# Altium footprint library J 集成块.PCBLIB: 89 footprints (part 4 of 6)
Each footprint in its own frame and in the unit in brackets; x right, y up, seen from the top. Pads: shape width x height; smd on the part's side, far side on the other; paste and mask are expansions set on the pad; w line width, h text height; cw(c..) or ccw(c..) is an arc to the next point about the centre after c.
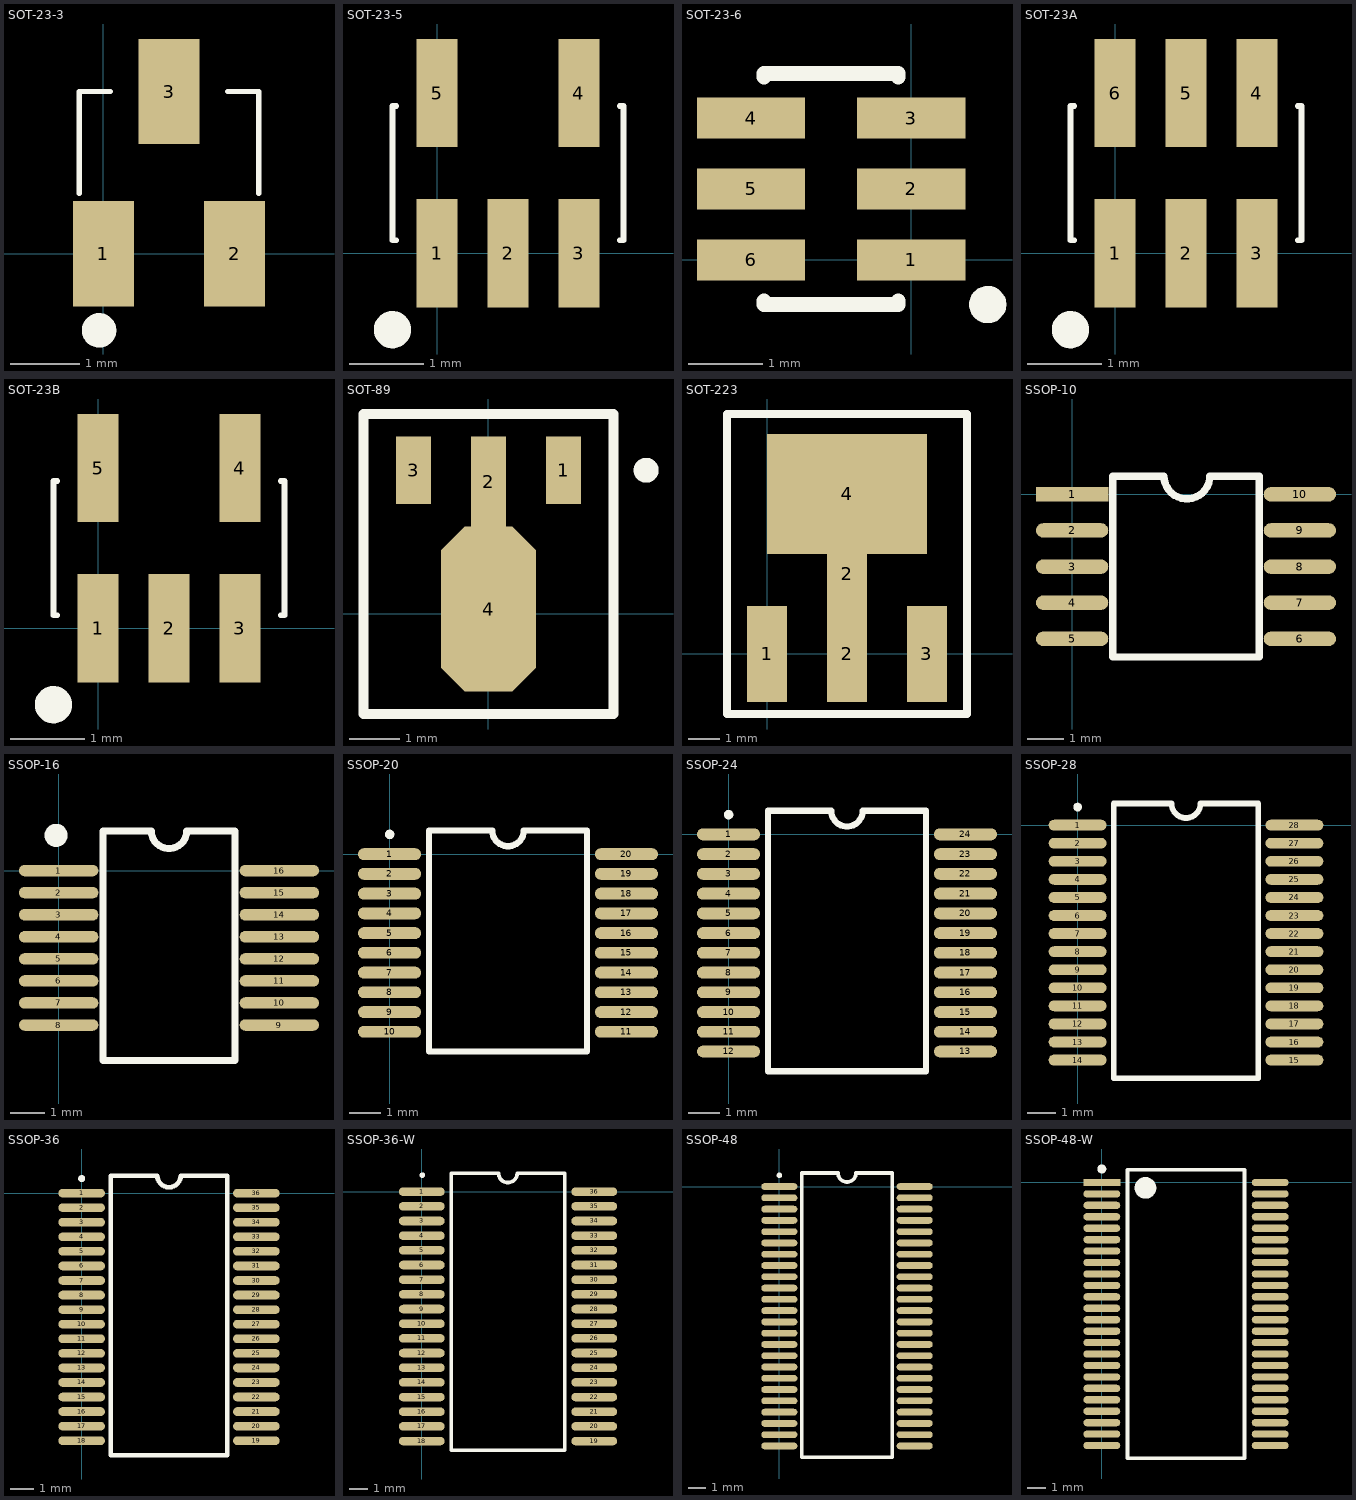
[diagram p3: the footprints below, top view; thin cyan lines are the x and y axes]

## SOT-23-3 [mil] "SOT-23; 3 Leads; Body 3.1 x 2.5 mm, inc. leads (LxW max), Alternate Lead Configuration"
height 43.31
pads (3):
  rect 35x60 smd: 1(0,0) 2(74.8,0) 3(37.4,92.52)
Top Overlay:
  circle w9.84: c-2.52,-43.74 r4.92
  lines w3: -13.78,34.45 -13.78,92.52 3.94,92.52 ; 70.87,92.52 88.58,92.52 88.58,34.45

## SOT-23-5 [mm] "SOT-23/SC-74A; 5 Leads; Body 3.1 x 3 mm, inc. leads (LxW max)"
height 1.45
pads (5):
  rect 0.55x1.45 smd: 1(0,0) 2(0.95,0) 3(1.9,0) 4(1.9,2.15) 5(0,2.15)
Top Overlay:
  circle w0.25: c-0.6,-1.025 r0.125
  lines w0.076: -0.55,0.175 -0.6,0.175 -0.6,1.975 -0.55,1.975 ; 2.45,0.175 2.5,0.175 2.5,1.975 2.45,1.975

## SOT-23-6 [mm]
pads (6):
  rect 1.45x0.55 smd: 1(0,0) 2(0,0.95) 3(0,1.9) 4(-2.15,1.9) 5(-2.15,0.95) 6(-2.15,0)
Top Overlay:
  circle w0.25: c1.025,-0.6 r0.125
  lines w0.2: -1.975,-0.55 -1.975,-0.6 -0.175,-0.6 -0.175,-0.55 ; -1.975,2.45 -1.975,2.5 -0.175,2.5 -0.175,2.45

## SOT-23A [mm] "SOT-23/SC-74A; 5 Leads; Body 3.1 x 3 mm, inc. leads (LxW max)"
height 1.45
pads (6):
  rect 0.55x1.45 smd: 1(0,0) 2(0.95,0) 3(1.9,0) 4(1.9,2.15) 5(0.95,2.15) 6(0,2.15)
Top Overlay:
  circle w0.25: c-0.6,-1.025 r0.125
  lines w0.076: -0.55,0.175 -0.6,0.175 -0.6,1.975 -0.55,1.975 ; 2.45,0.175 2.5,0.175 2.5,1.975 2.45,1.975

## SOT-23B [mm] "SOT-23/SC-74A; 5 Leads; Body 3.1 x 3 mm, inc. leads (LxW max)"
height 1.45
pads (5):
  rect 0.55x1.45 smd: 1(0,0) 2(0.95,0) 3(1.9,0) 4(1.9,2.15) 5(0,2.15)
Top Overlay:
  circle w0.25: c-0.6,-1.025 r0.125
  lines w0.076: -0.55,0.175 -0.6,0.175 -0.6,1.975 -0.55,1.975 ; 2.45,0.175 2.5,0.175 2.5,1.975 2.45,1.975

## SOT-89 [mm]
pads (4):
  rect 0.7x1.35 smd: 1(1.508,2.872) 3(-1.492,2.872)
  rect 0.7x1.8 smd: 2(0.008,2.647)
  oct 1.9x3.3 smd: 4(0.008,0.097)
Top Overlay:
  circle w0.25: c3.158,2.872 r0.125
  lines w0.2: -2.492,-2.002 2.508,-2.002 2.508,3.997 -2.492,3.997 -2.492,-2.002

## SOT-223 [mil]
pads (5):
  rect 50x120 smd: 1(0,0) 2(100,0) 3(200,0)
  rect 50x100 smd: 2(100,100)
  rect 200x150 smd: 4(100,200)
Top Overlay:
  lines w10: -50,-75 250,-75 250,300 -50,300 -50,-75

## SSOP-10 [mm]
pads (10):
  rect 2x0.4 smd: 1(0,0)
  oval 2x0.4 smd: 2(0,-1) 3(0,-2) 4(0,-3) 5(0,-4) 6(6.3,-4) 7(6.3,-3) 8(6.3,-2) 9(6.3,-1) 10(6.3,0)
Top Overlay:
  lines w0.203: 2.54,0.5 1.125,0.5 1.125,-4.5 5.174,-4.5 5.174,0.5 3.81,0.5 ; 2.54,0.508 ccw(c3.175,0.508) 3.81,0.508

## SSOP-16 [mil] "16Pin Small Outline Integrated Circuit 1.27 mm Pitch, IPC High Density"
height 104.33
pads (16):
  oval 90x13 smd: 1(0,0) 2(0,-25) 3(0,-50) 4(0,-75) 5(0,-100) 6(0,-125) 7(0,-150) 8(0,-175) 9(250,-175) 10(250,-150) 11(250,-125) 12(250,-100) 13(250,-75) 14(250,-50) 15(250,-25) 16(250,0)
Top Overlay:
  circle w20: c-3,40 r3
  lines w8: 50,-215 50,45 105,45 ccw(c125,45) 145,45 200,45 200,-215 50,-215

## SSOP-20 [mil] "20-Pin Small Outline Integrated Circuit 1.27 mm Pitch, IPC High Density"
height 104.33
pads (20):
  oval 80x15 smd: 1(0,0) 2(0,-25) 3(0,-50) 4(0,-75) 5(0,-100) 6(0,-125) 7(0,-150) 8(0,-175) 9(0,-200) 10(0,-225) 11(300,-225) 12(300,-200) 13(300,-175) 14(300,-150) 15(300,-125) 16(300,-100) 17(300,-75) 18(300,-50) 19(300,-25) 20(300,0)
Top Overlay:
  circle w6: c0.08,25 r3
  lines w8: 50,-250 250,-250 250,30 170,30 cw(c150,30) 130,30 50,30 50,-250
Mechanical 15:
  lines w3: -19.68,0 19.69,0

## SSOP-24 [mil]
pads (24):
  oval 80x15 smd: 1(0,0) 2(0,-25) 3(0,-50) 4(0,-75) 5(0,-100) 6(0,-125) 7(0,-150) 8(0,-175) 9(0,-200) 10(0,-225) 11(0,-250) 12(0,-275) 13(300,-275) 14(300,-250) 15(300,-225) 16(300,-200) 17(300,-175) 18(300,-150) 19(300,-125) 20(300,-100) 21(300,-75) 22(300,-50) 23(300,-25) 24(300,0)
Top Overlay:
  circle w6: c0.08,25 r3
  lines w8: 50,-300 250,-300 250,30 170,30 cw(c150,30) 130,30 50,30 50,-300

## SSOP-28 [mil]
pads (28):
  oval 80x15 smd: 1(0,0) 2(0,-25) 3(0,-50) 4(0,-75) 5(0,-100) 6(0,-125) 7(0,-150) 8(0,-175) 9(0,-200) 10(0,-225) 11(0,-250) 12(0,-275) 13(0,-300) 14(0,-325) 15(300,-325) 16(300,-300) 17(300,-275) 18(300,-250) 19(300,-225) 20(300,-200) 21(300,-175) 22(300,-150) 23(300,-125) 24(300,-100) 25(300,-75) 26(300,-50) 27(300,-25) 28(300,0)
Top Overlay:
  circle w6: c0.08,25 r3
  lines w8: 50,-350 50,30 130,30 ccw(c150,30) 170,30 250,30 250,-350 50,-350

## SSOP-36 [mil]
pads (36):
  oval 80x15 smd: 1(0,0) 2(0,-25) 3(0,-50) 4(0,-75) 5(0,-100) 6(0,-125) 7(0,-150) 8(0,-175) 9(0,-200) 10(0,-225) 11(0,-250) 12(0,-275) 13(0,-300) 14(0,-325) 15(0,-350) 16(0,-375) 17(0,-400) 18(0,-425) 19(300,-425) 20(300,-400) 21(300,-375) 22(300,-350) 23(300,-325) 24(300,-300) 25(300,-275) 26(300,-250) 27(300,-225) 28(300,-200) 29(300,-175) 30(300,-150) 31(300,-125) 32(300,-100) 33(300,-75) 34(300,-50) 35(300,-25) 36(300,0)
Top Overlay:
  circle w6: c0.08,25 r3
  lines w8: 50,-450 50,30 130,30 ccw(c150,30) 170,30 250,30 250,-450 50,-450
Mechanical 15:
  lines w3: -19.68,0 19.69,0

## SSOP-36-W [mm]
pads (36):
  oval 2.5x0.47 smd: 1(0,0) 2(0,-0.8) 3(0,-1.6) 4(0,-2.4) 5(0,-3.2) 6(0,-4) 7(0,-4.8) 8(0,-5.6) 9(0,-6.4) 10(0,-7.2) 11(0,-8) 12(0,-8.8) 13(0,-9.6) 14(0,-10.4) 15(0,-11.2) 16(0,-12) 17(0,-12.8) 18(0,-13.6) 19(9.4,-13.6) 20(9.4,-12.8) 21(9.4,-12) 22(9.4,-11.2) 23(9.4,-10.4) 24(9.4,-9.6) 25(9.4,-8.8) 26(9.4,-8) 27(9.4,-7.2) 28(9.4,-6.4) 29(9.4,-5.6) 30(9.4,-4.8) 31(9.4,-4) 32(9.4,-3.2) 33(9.4,-2.4) 34(9.4,-1.6) 35(9.4,-0.8) 36(9.4,0)
Top Overlay:
  circle w0.152: c0.024,0.9 r0.076
  lines w0.203: 4.15,1 1.6,1 1.6,-14.1 7.8,-14.1 7.8,1 5.2,1 cw(c4.692,1) 4.184,1

## SSOP-48 [mil]
pads (48):
  oval 80x15 smd: 1(0,0) 2(0,-25) 3(0,-50) 4(0,-75) 5(0,-100) 6(0,-125) 7(0,-150) 8(0,-175) 9(0,-200) 10(0,-225) 11(0,-250) 12(0,-275) 13(0,-300) 14(0,-325) 15(0,-350) 16(0,-375) 17(0,-400) 18(0,-425) 19(0,-450) 20(0,-475) 21(0,-500) 22(0,-525) 23(0,-550) 24(0,-575) 25(300,-575) 26(300,-550) 27(300,-525) 28(300,-500) 29(300,-475) 30(300,-450) 31(300,-425) 32(300,-400) 33(300,-375) 34(300,-350) 35(300,-325) 36(300,-300) 37(300,-275) 38(300,-250) 39(300,-225) 40(300,-200) 41(300,-175) 42(300,-150) 43(300,-125) 44(300,-100) 45(300,-75) 46(300,-50) 47(300,-25) 48(300,0)
Top Overlay:
  circle w6: c0.08,25 r3
  lines w8: 50,-600 250,-600 250,30 170,30 cw(c150,30) 130,30 50,30 50,-600
Mechanical 15:
  lines w3: -19.68,0 19.69,0

## SSOP-48-W [mm]
pads (48):
  rect 2.05x0.4 smd: 1(0,0)
  oval 2.05x0.4 smd: 2(0,-0.635) 3(0,-1.27) 4(0,-1.905) 5(0,-2.54) 6(0,-3.175) 7(0,-3.81) 8(0,-4.445) 9(0,-5.08) 10(0,-5.715) 11(0,-6.35) 12(0,-6.985) 13(0,-7.62) 14(0,-8.255) 15(0,-8.89) 16(0,-9.525) 17(0,-10.16) 18(0,-10.795) 19(0,-11.43) 20(0,-12.065) 21(0,-12.7) 22(0,-13.335) 23(0,-13.97) 24(0,-14.605) 25(9.35,-14.605) 26(9.35,-13.97) 27(9.35,-13.335) 28(9.35,-12.7) 29(9.35,-12.065) 30(9.35,-11.43) 31(9.35,-10.795) 32(9.35,-10.16) 33(9.35,-9.525) 34(9.35,-8.89) 35(9.35,-8.255) 36(9.35,-7.62) 37(9.35,-6.985) 38(9.35,-6.35) 39(9.35,-5.715) 40(9.35,-5.08) 41(9.35,-4.445) 42(9.35,-3.81) 43(9.35,-3.175) 44(9.35,-2.54) 45(9.35,-1.905) 46(9.35,-1.27) 47(9.35,-0.635) 48(9.35,0)
Top Overlay:
  circle w0.6: c2.425,-0.302 r0.3
  circle w0.25: c0,0.75 r0.125
  lines w0.2: 1.425,-15.302 7.925,-15.302 7.925,0.697 1.425,0.697 1.425,-15.302